# Altium footprint library BM20B(0.6)-20DP-0.4V.PcbLib: 1 footprints
Each footprint in its own frame and in the unit in brackets; x right, y up, seen from the top. Pads: shape width x height; smd on the part's side, far side on the other; paste and mask are expansions set on the pad; w line width, h text height; cw(c..) or ccw(c..) is an arc to the next point about the centre after c.
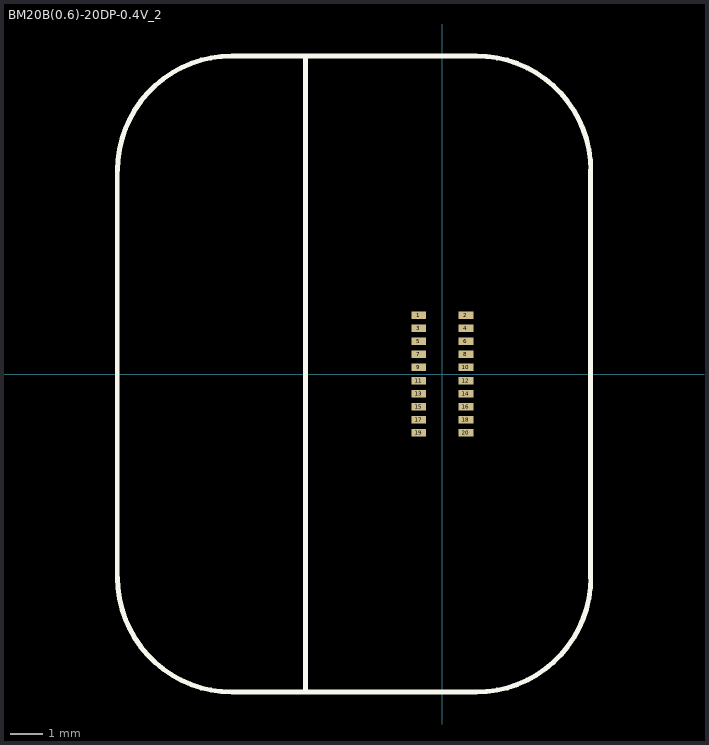
[diagram p0: the footprint, top view; thin cyan lines are the x and y axes]

## BM20B(0.6)-20DP-0.4V_2 [mm]
pads (20):
  rect 0.45x0.23 smd mask+0: 1(-0.725,1.8) 2(0.725,1.8) 3(-0.725,1.4) 4(0.725,1.4) 5(-0.725,1) 6(0.725,1) 7(-0.725,0.6) 8(0.725,0.6) 9(-0.725,0.2) 10(0.725,0.2) 11(-0.725,-0.2) 12(0.725,-0.2) 13(-0.725,-0.6) 14(0.725,-0.6) 15(-0.725,-1) 16(0.725,-1) 17(-0.725,-1.4) 18(0.725,-1.4) 19(-0.725,-1.8) 20(0.725,-1.8)
Top Overlay:
  lines w0.152: -9.96,-6.25 -9.96,6.25 ; -9.95,-6.237 ccw(c-6.437,-6.237) -6.437,-9.75 ; -9.95,6.237 cw(c-6.437,6.237) -6.437,9.75 ; -6.45,-9.75 -4.19,-9.75 ; -6.45,9.75 -4.19,9.75 ; 1.037,-9.75 ccw(c1.037,-6.237) 4.55,-6.237 ; 1.037,9.75 cw(c1.037,6.237) 4.55,6.237 ; 1.05,-9.75 -4.19,-9.75 ; 1.05,9.75 -4.19,9.75 ; 4.54,-6.25 4.54,6.25 ; -4.19,-9.75 -4.19,9.75
3D body "step_temp.STEP": height 2.7, standoff -2.7, extent -0.89,-0.515 0.89,0